# EAGLE library part MMATCH-18-* (library jt-con-micromatch)
AMP Micromatch 18-pin
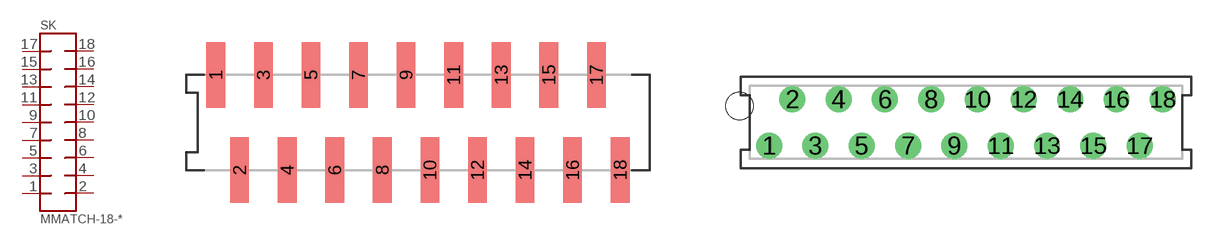
[diagram p5: symbol with the pads of AMP-188275-18; footprints AMP-188275-18, AMP-215079-18]

Designator prefix SK

## MMATCH-18-SMT  [AMP-188275-18]
1  1
2  2
3  3
4  4
5  5
6  6
7  7
8  8
9  9
10  10
11  11
12  12
13  13
14  14
15  15
16  16
17  17
18  18

## MMATCH-18-PTH  [AMP-215079-18]
Pads as for AMP-188275-18

## Footprint AMP-188275-18 (pad centres in mm)
smd 1 x 3.5: 1 0,2.54; 2 1.27,-2.54; 3 2.54,2.54; 4 3.81,-2.54; 5 5.08,2.54; 6 6.35,-2.54; 7 7.62,2.54; 8 8.89,-2.54; 9 10.16,2.54; 10 11.43,-2.54; 11 12.7,2.54; 12 13.97,-2.54; 13 15.24,2.54; 14 16.51,-2.54; 15 17.78,2.54; 16 19.05,-2.54; 17 20.32,2.54; 18 21.59,-2.54

## Footprint AMP-215079-18 (pad centres in mm)
drill 0.8 pad 1.422 round: 1 0,-1.27; 2 1.27,1.27; 3 2.54,-1.27; 4 3.81,1.27; 5 5.08,-1.27; 6 6.35,1.27; 7 7.62,-1.27; 8 8.89,1.27; 9 10.16,-1.27; 10 11.43,1.27; 11 12.7,-1.27; 12 13.97,1.27; 13 15.24,-1.27; 14 16.51,1.27; 15 17.78,-1.27; 16 19.05,1.27; 17 20.32,-1.27; 18 21.59,1.27
hole 1.5 at -1.62,0.905